# Altium schematic symbol library AD7175-2BRUZ.SchLib: 1 symbol
Pins are listed as number, name and electrical type; pins without a type are passive.

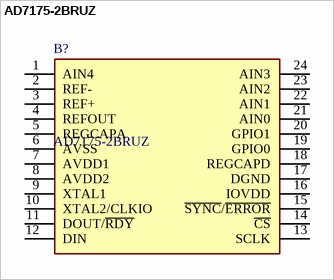
[diagram p0: symbol AD7175-2BRUZ]

## AD7175-2BRUZ
designator B?
Analog Devices AD7175-2BRUZ, 24 bit DSP, Microwire, QSPI, SPI ADC, Dual Differential Input, 24-Pin TSSOP; Geometry.Height: 1.2mm; Mouser Part Number: 584-AD7175-2BRUZ; Mouser Price/Stock: https://www.mouser.co.uk/ProductDetail/Analog-Devices/AD7175-2BRUZ?qs=edjv0jo2O1ZYeO73Tf3Ohw%3D%3D; Manufacturer_Name: Analog Devices; Manufacturer_Part_Number: AD7175-2BRUZ; Datasheet Link: https://www.analog.com/media/en/technical-documentation/data-sheets/ad7175-2.pdf
footprint SOP65P640X120-24N
pins: 1 AIN4, 2 REF-, 3 REF+, 4 REFOUT, 5 REGCAPA, 6 AVSS, 7 AVDD1, 8 AVDD2, 9 XTAL1, 10 XTAL2/CLKIO, 11 DOUT/~{RDY}, 12 DIN, 13 SCLK, 14 ~{CS}, 15 ~{SYNC}/~{ERROR}, 16 IOVDD, 17 DGND, 18 REGCAPD, 19 GPIO0, 20 GPIO1, 21 AIN0, 22 AIN1, 23 AIN2, 24 AIN3